# EAGLE library part M-04522_FXMA108 (library Akizuki)
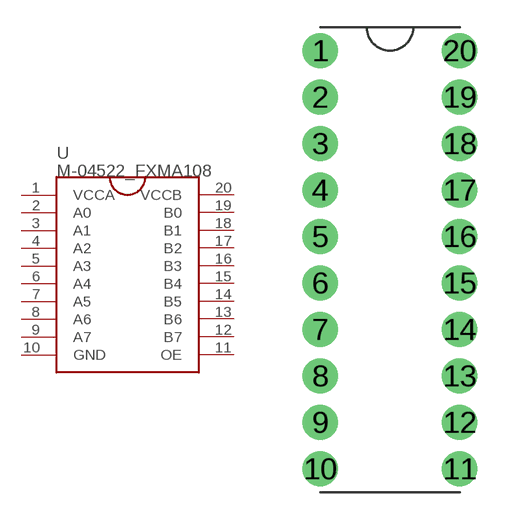
[diagram p33: symbol with the pads of FXMA108; footprint FXMA108]

Designator prefix U

## M-04522_FXMA108  [FXMA108]
1  VCCA
2  A0
3  A1
4  A2
5  A3
6  A4
7  A5
8  A6
9  A7
10  GND
11  OE
12  B7
13  B6
14  B5
15  B4
16  B3
17  B2
18  B1
19  B0
20  VCCB

## Footprint FXMA108 (pad centres in mm)
drill 0.8 pad 1.93: 1 0,20.32; 2 0,17.78; 3 0,15.24; 4 0,12.7; 5 0,10.16; 6 0,7.62; 7 0,5.08; 8 0,2.54; 9 0,0; 10 0,-2.54; 11 7.62,-2.54; 12 7.62,0; 13 7.62,2.54; 14 7.62,5.08; 15 7.62,7.62; 16 7.62,10.16; 17 7.62,12.7; 18 7.62,15.24; 19 7.62,17.78; 20 7.62,20.32